# Altium schematic symbol library CANTerm.SchLib: 2 symbols
Pins are listed as number, name and electrical type; pins without a type are passive.

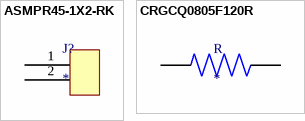
[diagram p0: symbols ASMPR45-1X2-RK to CRGCQ0805F120R]

## ASMPR45-1X2-RK
designator J?
C-powerpoles 10 / 45, PP15/45 1X2 45 Amp Horizontal Pcb Assembly Red, Blk.; Manufacturer: Anderson Power; Manufacturer Part Number: ASMPR45-1X2-RK; Supplier 1: Digi-Key; RoHS: No; Category: Connectors; Stock 1: 801; Pricing 1: 1=4.44000, 10=4.02800, 25=3.81520, 50=3.72640, 100=3.54900, 250=3.10536, 500=3.01664, 1000=2.57302, 2500=2.39558 (USD); Supplier Part Number 1: 2243-ASMPR45-1X2-RK-ND
footprint APP_ASMPR45-1X2-RK
pins: 1, 2

## CRGCQ0805F120R
designator R
Fixed Resistor CRGCQ 0805 120R 1%; MP: CRGCQ0805F120R; MF: TE Connectivity; SnapEDA_Link: https://www.snapeda.com/parts/CRGCQ0805F120R/TE%20Connectivity/view-part/3187861/?ref=snap; Availability: Unavailable; TE_purchase_URL: https://www.te.com/usa-en/product-1-2176341-4.html?te_bu=Cor&te_type=disp&te_campaign=seda_glo_cor-seda-global-disp-prtnr-fy19-seda-model-bom-cta_sma-317_1&elqCampaignId=32493; Price: None; Value: *; Package: 2012 TE Connectivity
footprint R0805 (CRGCQ0805Fxxxx)
pins: 1, 2